# Altium schematic symbol library Schlib1.SchLib: 17 symbols
Pins are listed as number, name and electrical type; pins without a type are passive.

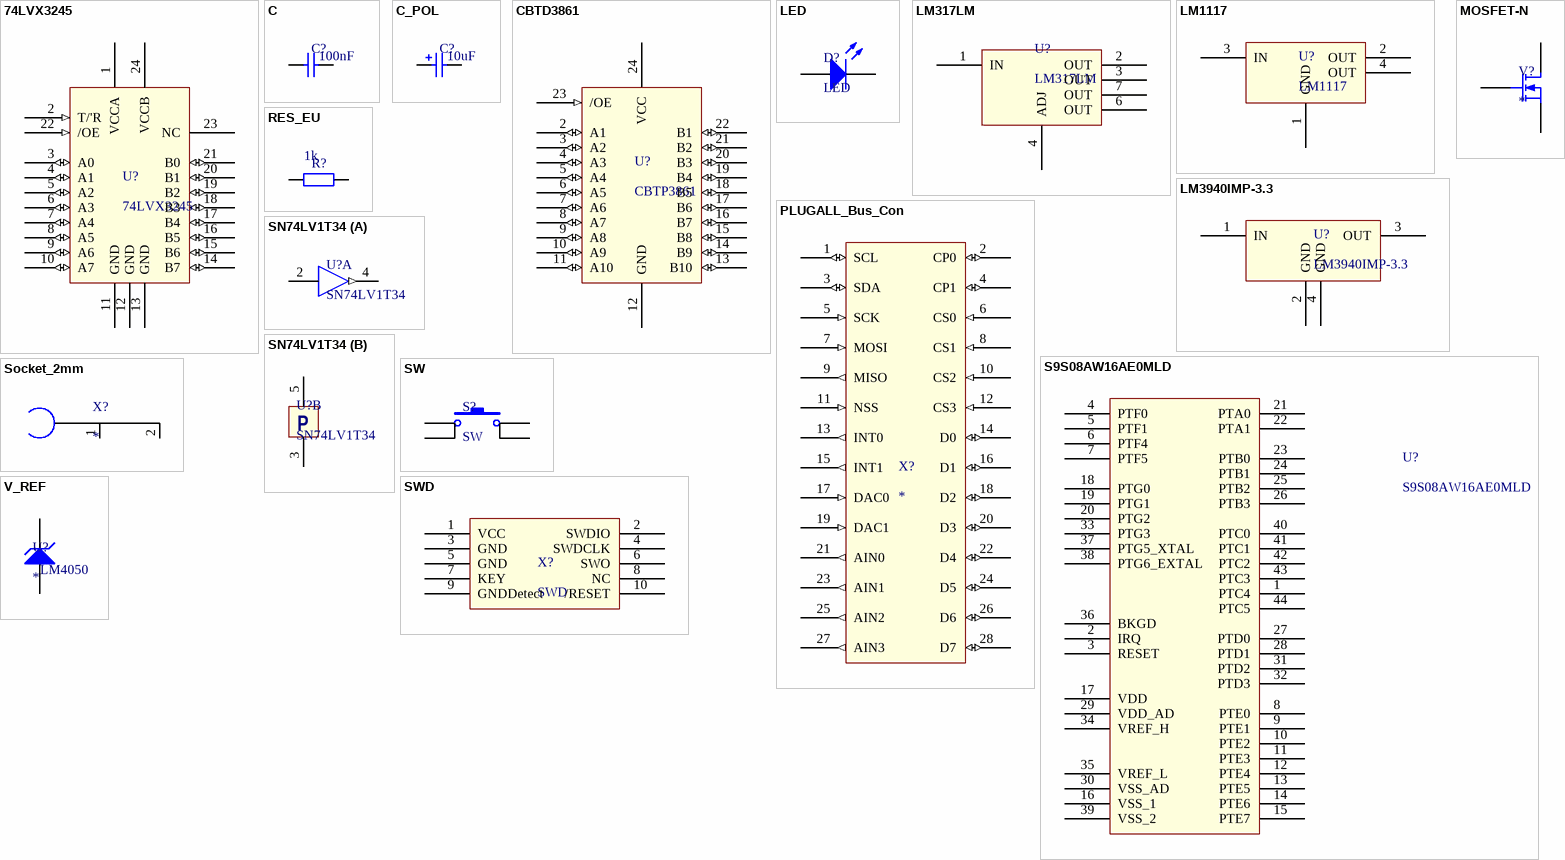
[diagram p0: symbols 74LVX3245 to V_REF]

## 74LVX3245
designator U?
Value: 74LVX3245
footprint TSSOP24
pins: 1 VCCA (power), 2 T/'R (in), 3 A0 (io), 4 A1 (io), 5 A2 (io), 6 A3 (io), 7 A4 (io), 8 A5 (io), 9 A6 (io), 10 A7 (io), 11 GND (power), 12 GND (power), 13 GND (power), 14 B7 (io), 15 B6 (io), 16 B5 (io), 17 B4 (io), 18 B3 (io), 19 B2 (io), 20 B1 (io), 21 B0 (io), 22 /OE (in), 23 NC, 24 VCCB (power)

## C
designator C?  value 100nF  (hidden comment: C)
footprint 1206
footprint 1210
footprint 0805
pins: 1, 2

## C_POL
designator C?, comment value 10uF  (hidden comment: C)
footprint C6032_POL
pins: 1 -, 2 +

## CBTD3861
designator U?, comment CBTP3861
Logic Level Converter; Value: CBTP3861
footprint SSOP24
pins: 1 NC hidden, 2 A1 (io), 3 A2 (io), 4 A3 (io), 5 A4 (io), 6 A5 (io), 7 A6 (io), 8 A7 (io), 9 A8 (io), 10 A9 (io), 11 A10 (io), 12 GND (power), 13 B10 (io), 14 B9 (io), 15 B8 (io), 16 B7 (io), 17 B6 (io), 18 B5 (io), 19 B4 (io), 20 B3 (io), 21 B2 (io), 22 B1 (io), 23 /OE (in), 24 VCC (power)

## LED
designator D?
Value: *
footprint D_0603
pins: 1 A, 2 K

## LM317LM
designator U?
Value: LM317LM
footprint SO-8
pins: 1 IN (power), 2 OUT (power), 3 OUT (power), 4 ADJ, 6 OUT (power), 7 OUT (power)

## LM1117
designator U?
Value: LM1117
footprint SOT-223
pins: 1 GND (power), 2 OUT (power), 3 IN (power), 4 OUT (power)

## LM3940IMP-3.3
designator U?
Value: LM3940IMP-3.3
footprint SOT-223
pins: 1 IN, 2 GND, 3 OUT, 4 GND

## MOSFET-N
designator V?
Value: *
footprint SOT-23; pin to pad 1>3 2>1 3>2
pins: 1 D, 2 G, 3 S

## PLUGALL_Bus_Con
designator X?
PLUGALL Card Connector; Value: 2x14
footprint CON14X2
pins: 1 SCL (io), 2 CP0 (io) "I2C Clock", 3 SDA (io), 4 CP1 (io), 5 SCK (in), 6 CS0 (in), 7 MOSI (in), 8 CS1 (in), 9 MISO (out), 10 CS2 (in), 11 NSS (in), 12 CS3 (in), 13 INT0 (out), 14 D0 (io), 15 INT1 (out), 16 D1 (io), 17 DAC0 (in), 18 D2 (io), 19 DAC1 (in), 20 D3 (io), 21 AIN0 (out), 22 D4 (io), 23 AIN1 (out), 24 D5 (io), 25 AIN2 (out), 26 D6 (io), 27 AIN3 (out), 28 D7 (io)

## RES_EU
designator R?, comment value 1k  (hidden comment: R)
footprint R_0603
footprint 0805 (Footprint not found)
pins: 1, 2

## S9S08AW16AE0MLD
designator U?
footprint LQFP44
pins: 1 PTC4, 2 IRQ, 3 RESET, 4 PTF0, 5 PTF1, 6 PTF4, 7 PTF5, 8 PTE0, 9 PTE1, 10 PTE2, 11 PTE3, 12 PTE4, 13 PTE5, 14 PTE6, 15 PTE7, 16 VSS_1, 17 VDD, 18 PTG0, 19 PTG1, 20 PTG2, 21 PTA0, 22 PTA1, 23 PTB0, 24 PTB1, 25 PTB2, 26 PTB3, 27 PTD0, 28 PTD1, 29 VDD_AD, 30 VSS_AD, 31 PTD2, 32 PTD3, 33 PTG3, 34 VREF_H, 35 VREF_L, 36 BKGD, 37 PTG5_XTAL, 38 PTG6_EXTAL, 39 VSS_2, 40 PTC0, 41 PTC1, 42 PTC2, 43 PTC3, 44 PTC5

## SN74LV1T34
designator U?
Value: SN74LV1T34
footprint DCK
part A pins: 2 IN, 4 OUT (out)
part B pins: 3 GND (power), 5 VCC (power)
part B text: P

## Socket_2mm
designator X?
Value: Banana_2mm
footprint 2MM_BANANA
pins: 1 (power), 2 (power)

## SW
designator S?
Value: SW
footprint SW_4x4x1.5
pins: 1, 2, 3, 4

## SWD
designator X?
Value: 2X5
footprint 4448.0054
pins: 1 VCC, 2 SWDIO, 3 GND, 4 SWDCLK, 5 GND, 6 SWO, 7 KEY, 8 NC, 9 GNDDetect, 10 /RESET

## V_REF
designator U?  value LM4050
footprint SOT-23
pins: 1 K, 2 A